# EAGLE library part IRF7104 (library mylib (Copie en conflit de phoenix 2014-09-20))
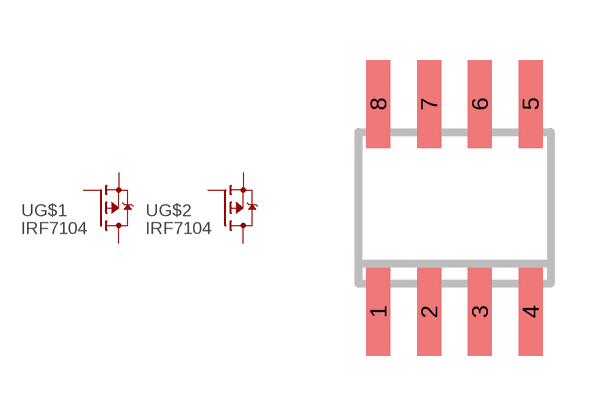
[diagram p3: symbol with the pads of SOIC8; footprint SOIC8]

Designator prefix -; gates G$1=P-MOSFET G$2=P-MOSFET

## IRF7104  [SOIC8]
1  G$1:S  pas
2  G$1:G  pas
3  G$2:S  pas
4  G$2:G  pas
5  G$2:D  pas
6  G$2:D  pas
7  G$1:D  pas
8  G$1:D  pas

## Footprint SOIC8 (pad centres in mm)
Small Outline IC
smd 0.6 x 2.2: 1 -1.905,-2.6; 2 -0.635,-2.6; 3 0.635,-2.6; 4 1.905,-2.6; 5 1.905,2.6; 6 0.635,2.6; 7 -0.635,2.6; 8 -1.905,2.6